# EAGLE library part SW-SP12T (library ryans-common-components)
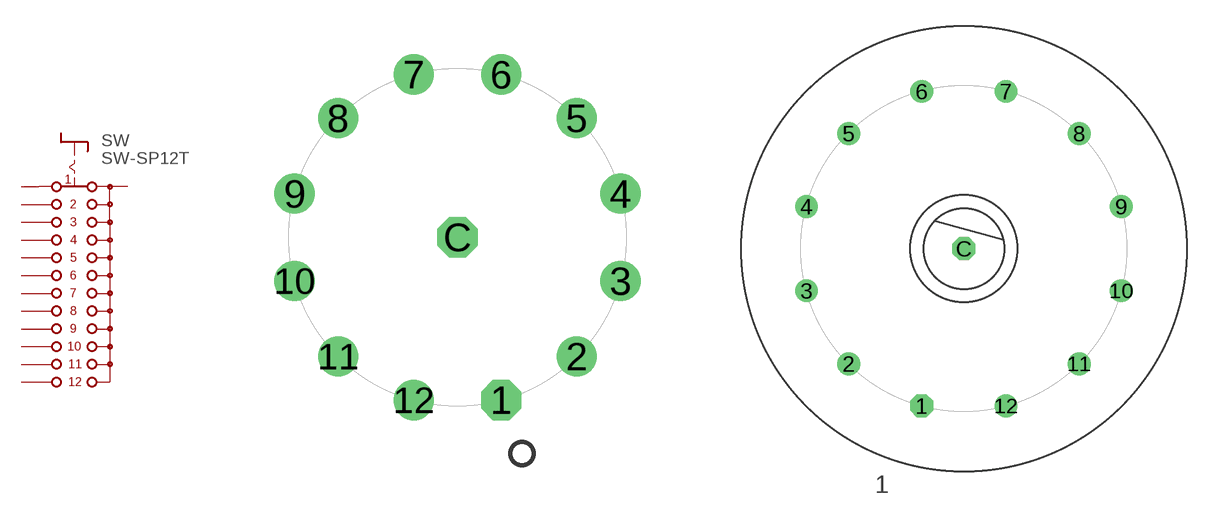
[diagram p22: symbol with the pads of SW-GRAYHILL-56-SP12T-30DEG-PCB-REVERSE-MOUNT; footprints SW-GRAYHILL-56-SP12T-30DEG-PCB-REVERSE-MOUNT, SW-GRAYHILL-56-SP12T-30DEG-PCB]

Designator prefix SW

## SW-SP12T-GRAYHILL-56-REVERSE-MOUNT  [SW-GRAYHILL-56-SP12T-30DEG-PCB-REVERSE-MOUNT]
1  1  pas
2  2  pas
3  3  pas
4  4  pas
5  5  pas
6  6  pas
7  7  pas
8  8  pas
9  9  pas
10  10  pas
11  11  pas
12  12  pas
C  A  pas

## SW-SP12T-GRAYHILL-56  [SW-GRAYHILL-56-SP12T-30DEG-PCB]
Pads as for SW-GRAYHILL-56-SP12T-30DEG-PCB-REVERSE-MOUNT

## Footprint SW-GRAYHILL-56-SP12T-30DEG-PCB-REVERSE-MOUNT (pad centres in mm)
drill 0.6 octagon: 1 1.204,-4.491; C 0,0
drill 0.6: 2 3.287,-3.287; 3 4.491,-1.204; 4 4.491,1.204; 5 3.287,3.287; 6 1.204,4.491; 7 -1.204,4.491; 8 -3.287,3.287; 9 -4.491,1.204; 10 -4.491,-1.204; 11 -3.287,-3.287; 12 -1.204,-4.491

## Footprint SW-GRAYHILL-56-SP12T-30DEG-PCB (pad centres in mm)
r=0.366" matlocks-macbook:python matlock$ python pcb-rotary-switch.py pos degrees x y 1 15 0.3535 0.0947 2 45 0.2588 0.2588 3 75 0.0947 0.3535 4 105 -0.0947 0.3535 5 135 -0.2588 0.2588 6 165 -0.3535 0.0947 7 195 -0.3535 -0.0947 8 225 -0.2588 -0.2588 9 255 -0.0947 -0.3535 10 285 0.0947 -0.3535 11 315 0.2588 -0.2588 12 345 0.3535 -0.0947
drill 0.8 octagon: 1 -2.405,-8.979; C 0,0
drill 0.8: 2 -6.574,-6.574; 3 -8.979,-2.405; 4 -8.979,2.405; 5 -6.574,6.574; 6 -2.405,8.979; 7 2.405,8.979; 8 6.574,6.574; 9 8.979,2.405; 10 8.979,-2.405; 11 6.574,-6.574; 12 2.405,-8.979